# Altium footprint library AUDIO.PcbLib: 1 footprints
Each footprint in its own frame and in the unit in brackets; x right, y up, seen from the top. Pads: shape width x height; smd on the part's side, far side on the other; paste and mask are expansions set on the pad; w line width, h text height; cw(c..) or ccw(c..) is an arc to the next point about the centre after c.
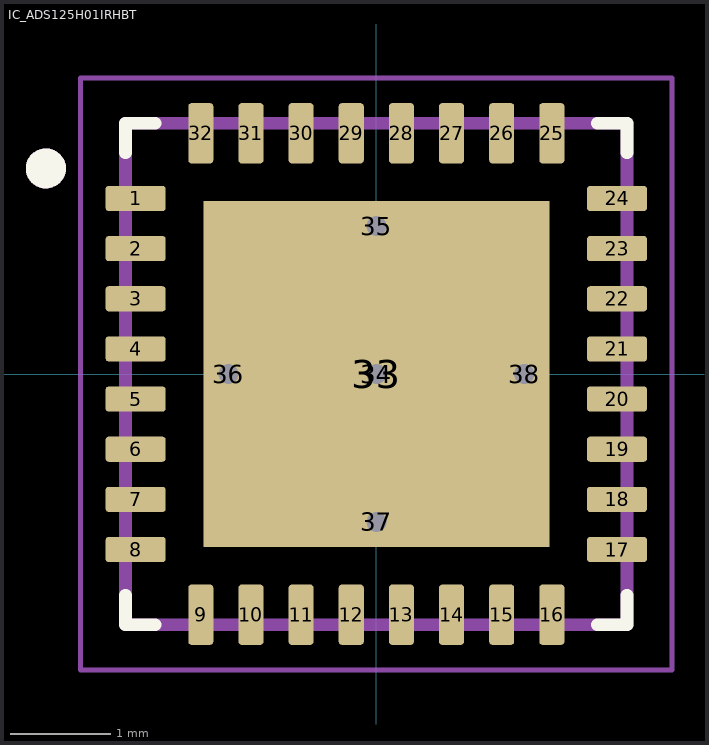
[diagram p0: the footprint, top view; thin cyan lines are the x and y axes]

## IC_ADS125H01IRHBT [mm]
pads (38):
  rrect25% 0.6x0.25 smd mask+0: 1(-2.4,1.75) 2(-2.4,1.25) 3(-2.4,0.75) 4(-2.4,0.25) 5(-2.4,-0.25) 6(-2.4,-0.75) 7(-2.4,-1.25) 8(-2.4,-1.75) 17(2.4,-1.75) 18(2.4,-1.25) 19(2.4,-0.75) 20(2.4,-0.25) 21(2.4,0.25) 22(2.4,0.75) 23(2.4,1.25) 24(2.4,1.75)
  rrect25% 0.25x0.6 smd mask+0: 9(-1.75,-2.4) 10(-1.25,-2.4) 11(-0.75,-2.4) 12(-0.25,-2.4) 13(0.25,-2.4) 14(0.75,-2.4) 15(1.25,-2.4) 16(1.75,-2.4) 25(1.75,2.4) 26(1.25,2.4) 27(0.75,2.4) 28(0.25,2.4) 29(-0.25,2.4) 30(-0.75,2.4) 31(-1.25,2.4) 32(-1.75,2.4)
  rect 3.45x3.45 smd paste-3 mask+0.07: 33(0,0)
  round 0.4 hole 0.2 mask+0: 34(0,0) 35(0,1.475) 36(-1.475,0) 37(0,-1.475) 38(1.475,0)
Top Overlay:
  circle w0.2: c-3.295,2.05 r0.1
  lines w0.127: -2.5,-2.205 -2.5,-2.5 -2.205,-2.5 ; -2.5,2.205 -2.5,2.5 -2.205,2.5 ; 2.205,-2.5 2.5,-2.5 2.5,-2.205 ; 2.205,2.5 2.5,2.5 2.5,2.205
Top Paste:
  region: -0.1,0.1 -1.59,0.1 -1.59,1.59 -0.1,1.59
  region: 1.59,0.1 0.1,0.1 0.1,1.59 1.59,1.59
  region: -0.1,-1.59 -1.59,-1.59 -1.59,-0.1 -0.1,-0.1
  region: 1.59,-1.59 0.1,-1.59 0.1,-0.1 1.59,-0.1
Top Solder:
  drawing of 32 lines, arcs and shapes, not listed
Mechanical 13:
  circle w0.2: c-3.295,2.05 r0.1
  lines w0.127: -2.5,-2.5 2.5,-2.5 2.5,2.5 -2.5,2.5 -2.5,-2.5
Mechanical 15:
  lines w0.05: -2.95,-2.95 2.95,-2.95 2.95,2.95 -2.95,2.95 -2.95,-2.95
3D body "step_temp.STEP": height 1, standoff 0, extent -2.5,-2.5 2.5,2.5